# EAGLE library part 74XX139_PDIP (library motordriverslib)
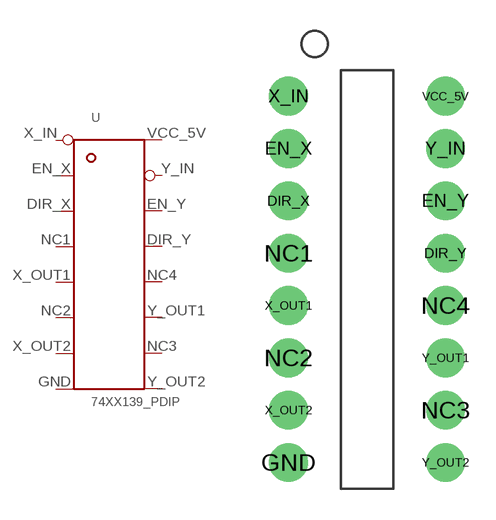
[diagram p1: symbol with the pads of 16PDIP; footprint 16PDIP]

Designator prefix U

## 74XX139_PDIP  [16PDIP]
DIR_X  P$3
DIR_Y  P$13
EN_X  P$2
EN_Y  P$14
GND  P$8
NC1  P$4
NC2  P$6
NC3  P$10
NC4  P$12
VCC_5V  P$16
X_IN  P$1
X_OUT1  P$5
X_OUT2  P$7
Y_IN  P$15
Y_OUT1  P$11
Y_OUT2  P$9

## Footprint 16PDIP (pad centres in mm)
drill 1.016 pad 1.88: DIR_X 0,-5.08; DIR_Y 7.62,-7.62; EN_X 0,-2.54; EN_Y 7.62,-5.08; GND 0,-17.78; NC1 0,-7.62; NC2 0,-12.7; NC3 7.62,-15.24; NC4 7.62,-10.16; VCC_5V 7.62,0; X_IN 0,0; X_OUT1 0,-10.16; X_OUT2 0,-15.24; Y_IN 7.62,-2.54; Y_OUT1 7.62,-12.7; Y_OUT2 7.62,-17.78